# Altium footprint library Connector.PcbLib: 97 footprints (part 7 of 7)
Each footprint in its own frame and in the unit in brackets; x right, y up, seen from the top. Pads: shape width x height; smd on the part's side, far side on the other; paste and mask are expansions set on the pad; w line width, h text height; cw(c..) or ccw(c..) is an arc to the next point about the centre after c.
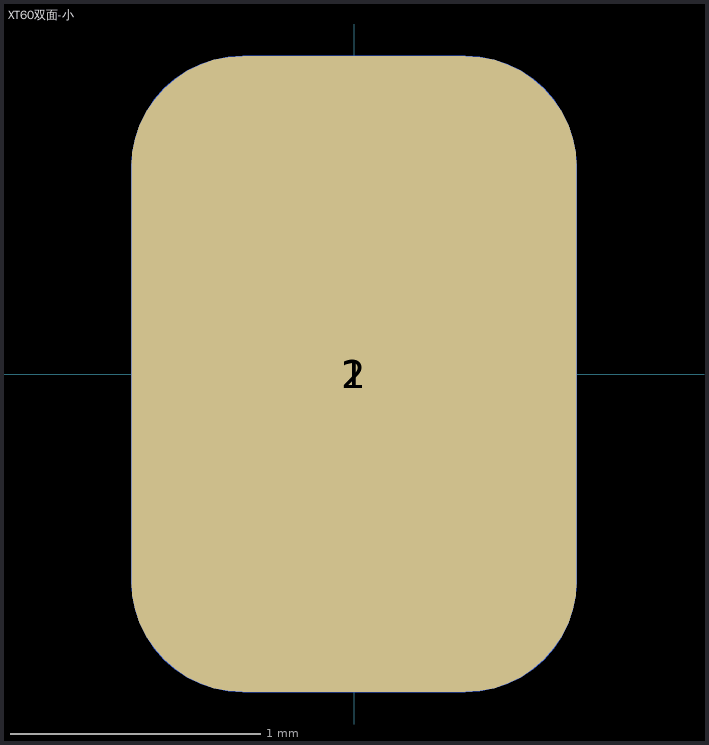
[diagram p6: the footprint, top view; thin cyan lines are the x and y axes]

## XT60双面-小 [mil] "XT60双面"
pads (2):
  rrect50% 70x100 smd far side mask+4: 1(0,0)
  rrect50% 70x100 smd mask+4: 2(0,0)